# Altium integrated library 1043.IntLib: 1 symbol
Pins are listed as number, name and electrical type; pins without a type are passive.

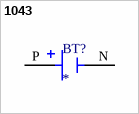
[diagram p0: symbol 1043]

## 1043
designator BT?
THM Holder for 18650 Battery; MF: Keystone Electronics; MP: 1043; SnapEDA_Link: https://www.snapeda.com/parts/1043/Keystone/view-part/?ref=snap; Package: NON STANDARD-5 Keystone; Value: *; Check_prices: https://www.snapeda.com/parts/1043/Keystone/view-part/?ref=eda
footprint BAT_1043
pins: N NEG, P POS